# Altium footprint library 2021-04-30_19-55-28.PcbLib: 1 footprints
Each footprint in its own frame and in the unit in brackets; x right, y up, seen from the top. Pads: shape width x height; smd on the part's side, far side on the other; paste and mask are expansions set on the pad; w line width, h text height; cw(c..) or ccw(c..) is an arc to the next point about the centre after c.
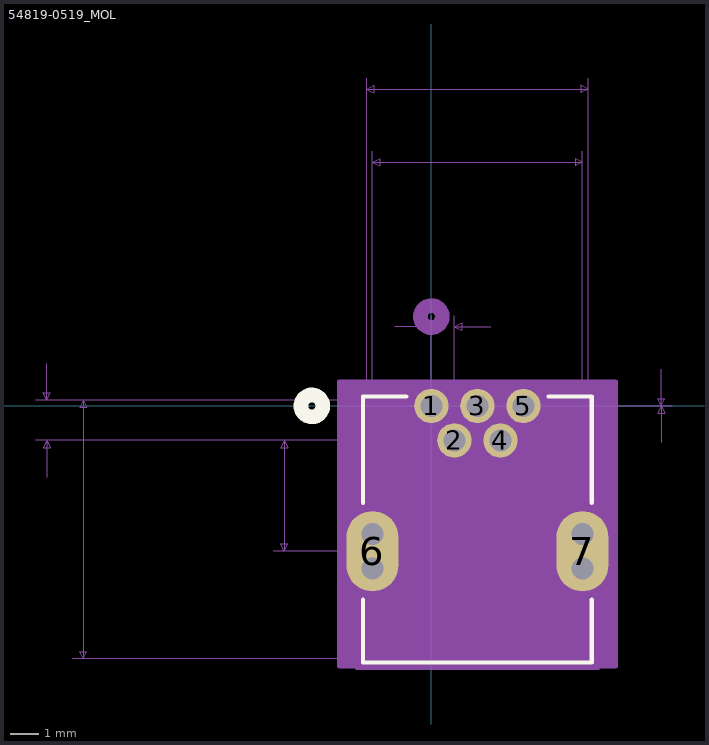
[diagram p0: the footprint, top view; thin cyan lines are the x and y axes]

## 54819-0519_MOL [mil]
pads (11):
  round 47 hole 30 mask+0: 1(0,0) 2(31.5,-47.24) 3(62.99,0) 4(94.49,-47.24) 5(125.98,0)
  oval 71x110 smd: 6(-80.71,-198.82) 7(206.69,-198.82)
  round 30 hole 30 unplated: S_1_H1(-80.71,-175.32) S_1_H2(-80.71,-222.32) S_2_H1(206.69,-175.32) S_2_H2(206.69,-222.32)
Top Overlay:
  circle w20: c-163.51,0 r15
  lines w6: -93.51,-265.2 -93.51,-351.13 219.49,-351.13 219.49,-265.2 ; -93.51,-132.43 -93.51,12.87 -34.26,12.87 ; 160.25,12.87 219.49,12.87 219.49,-132.43
Bottom Overlay:
  circle w20: c-163.51,0 r15
Mechanical 5:
  region: -103.51,22.87 229.49,22.87 229.49,-361.13 -103.51,-361.13
Mechanical 7:
  lines w1: -541.21,-47.24 62.99,-47.24 -216.21,-47.24 ; -541.21,7.87 -88.51,7.87 ; -526.21,-97.24 -526.21,-47.24 ; -526.21,57.87 -526.21,7.87 ; -491.21,-346.13 -88.51,-346.13 ; -491.21,7.87 -88.51,7.87 ; -216.21,-198.82 206.69,-198.82 206.69,348.5 ; -88.51,448.5 -88.51,7.87 ; -80.71,-198.82 -80.71,348.5 ; -50,108.5 0,108.5 ; 0,123.5 0,0 ; 31.5,0 31.5,123.5 ; 81.5,108.5 31.5,108.5 ; 214.49,7.87 214.49,448.5 ; 314.49,-50 314.49,0 ; 314.49,50 314.49,0 ; -526.21,-47.24 -531.21,-57.24 -521.21,-57.24 -526.21,-47.24 ; -526.21,7.87 -531.21,17.87 -521.21,17.87 -526.21,7.87 ; -476.21,-346.13 -476.21,7.87 ; -476.21,-346.13 -481.21,-336.13 -471.21,-336.13 -476.21,-346.13 ; -476.21,7.87 -481.21,-2.13 -471.21,-2.13 -476.21,7.87 ; -201.21,-198.82 -201.21,-47.24 ; -201.21,-198.82 -206.21,-188.82 -196.21,-188.82 -201.21,-198.82 ; -201.21,-47.24 -206.21,-57.24 -196.21,-57.24 -201.21,-47.24 ; -88.51,433.5 214.49,433.5 ; -88.51,433.5 -78.51,438.5 -78.51,428.5 -88.51,433.5 ; -80.71,333.5 206.69,333.5 ; -80.71,333.5 -70.71,338.5 -70.71,328.5 -80.71,333.5 ; 0,0 329.49,0 0,0 ; 0,108.5 -10,113.5 -10,103.5 0,108.5 ; 31.5,108.5 41.5,113.5 41.5,103.5 31.5,108.5 ; 206.69,333.5 196.69,338.5 196.69,328.5 206.69,333.5 ; 214.49,433.5 204.49,438.5 204.49,428.5 214.49,433.5 ; 314.49,0 309.49,10 319.49,10 314.49,0 ; 314.49,0 309.49,-10 319.49,-10 314.49,0
  text "Default Padstyle: EX47Y47D30P" at -299.51,-506.13 h50
  text "1st Mtg Padstyle: OX71Y110D0T" at -299.51,-581.13 h50
  text "2nd Mtg Padstyle: RX50Y100D40P" at -312.01,-656.13 h50
  text "3rd Mtg Padstyle: RX100Y50D40P" at -312.01,-731.13 h50
  text "Left Mtg Padstyle: RX50Y100D30P" at -324.51,-806.13 h50
  text "Right Mtg Padstyle: RX50Y100D30P" at -337.01,-881.13 h50
  text "Alt Padstyle 1: OX60Y90D30P" at -274.51,-956.13 h50
  text "Alt Padstyle 2: OX90Y60D30P" at -274.51,-1031.13 h50
  text "0.031in/0.8mm" at -65.5,128.5 h25
  text "0.287in/7.3mm" at -18.26,353.5 h25
  text "0.303in/7.696mm" at -30.76,453.5 h25
  text "0in/0mm" at 334.49,-59.74 h25
  text "-0.152in/-3.85mm" at -421.21,-135.53 h25
  text "0.055in/1.4mm" at -708.71,-32.19 h25
  text "0.354in/8.992mm" at -683.71,-181.63 h25
Mechanical 13:
  circle w20: c0,122.24 r15
  lines w1: -88.51,-346.13 214.49,-346.13 214.49,7.87 -88.51,7.87 -88.51,-346.13
Mechanical 15:
  region: 252.19,33.5 -126.21,33.5 -126.21,-356.13 252.19,-356.13
  lines w6: -126.21,-356.13 -126.21,33.5 252.19,33.5 252.19,-356.13 -126.21,-356.13
Multi-Layer:
  lines w30: -80.71,-222.32 -80.71,-175.32 ; 206.69,-222.32 206.69,-175.32
3D body: height 10, standoff 0, extent 0,0 10,10